# Altium footprint library WCH沁恒.pcblib: 121 footprints (part 1 of 8)
Each footprint in its own frame and in the unit in brackets; x right, y up, seen from the top. Pads: shape width x height; smd on the part's side, far side on the other; paste and mask are expansions set on the pad; w line width, h text height; cw(c..) or ccw(c..) is an arc to the next point about the centre after c.
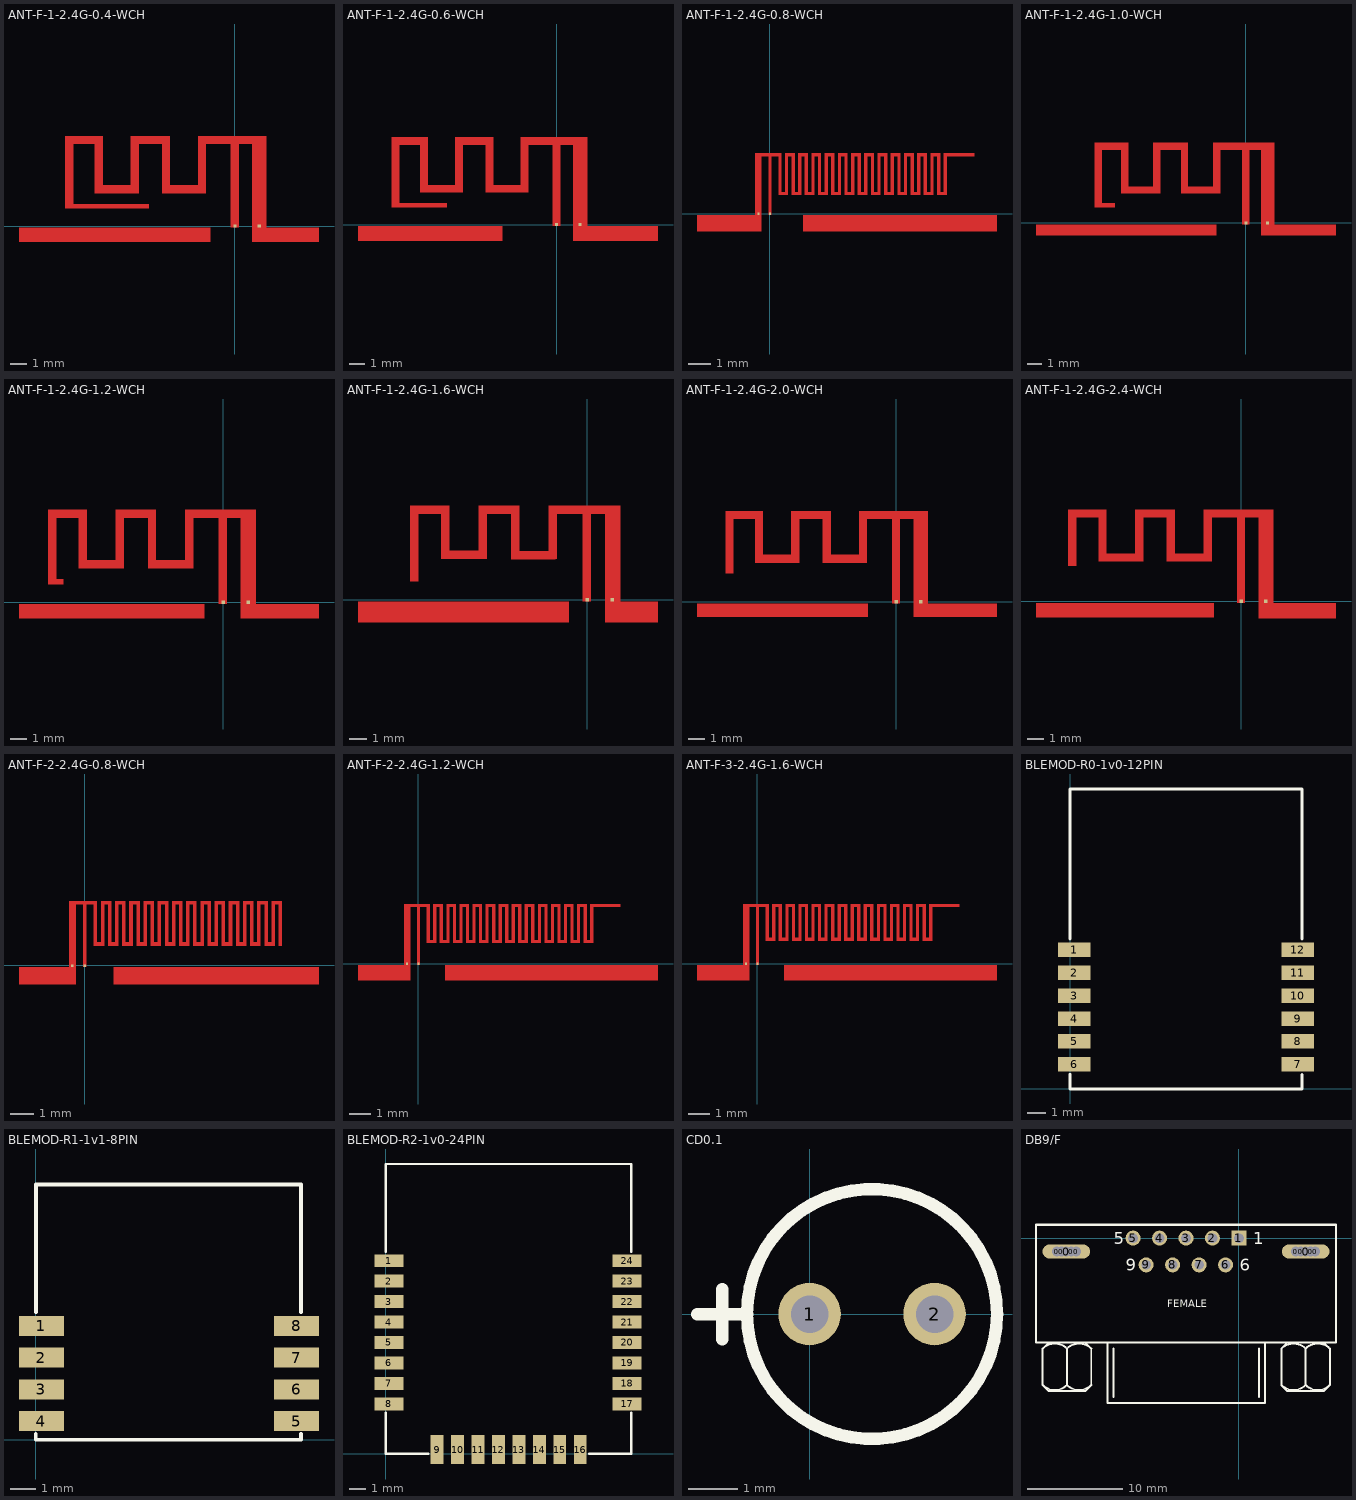
[diagram p0: the footprints below, top view; thin cyan lines are the x and y axes]

## ANT-F-1-2.4G-0.4-WCH [mm]
pads (2):
  rect 0.2x0.2 smd mask+0: 0(1.483,0) 1(0,0)
TopLayer:
  region: -5.26,1.36 -10.36,1.36 -10.36,1.06 -5.26,1.06
  region: 0.24,5.231 -0.26,5.231 -0.26,-0.1 0.24,-0.1
  region: 1.94,5.205 1.04,5.205 1.04,-0.1 1.94,-0.1
  region: 1.94,5.5 -2.26,5.5 -2.26,5 1.94,5
  region: -1.76,5.18 -2.26,5.18 -2.26,2 -1.76,2
  region: -1.85,2.5 -4.39,2.5 -4.39,2 -1.85,2
  region: -3.96,5.18 -4.46,5.18 -4.46,2 -3.96,2
  region: -3.96,5.5 -6.36,5.5 -6.36,5 -3.96,5
  region: -5.86,5.18 -6.36,5.18 -6.36,2 -5.86,2
  region: -5.875,2.5 -8.364,2.5 -8.364,2 -5.875,2
  region: -8.06,5.18 -8.56,5.18 -8.56,2 -8.06,2
  region: -8.06,5.5 -10.36,5.5 -10.36,5 -8.06,5
  region: -9.86,5.18 -10.36,5.18 -10.36,1.06 -9.86,1.06
  rectangle: 1.04,-0.974 5.134,-0.1
  rectangle: -13.183,-0.974 -1.488,-0.1
Mechanical13:
  text "GND" at 1.106,-1.525 h0.89
  text "GND" at -9.2,-1.525 h0.89
  text "适用FR4板材，0.4mm板厚，封装未开窗，建议天线开窗。技术咨询 tech@wch.cn" at -10.901,-4.729 h0.4

## ANT-F-1-2.4G-0.6-WCH [mm]
pads (2):
  rect 0.2x0.2 smd mask+0: 0(1.483,0) 1(0,0)
TopLayer:
  region: -9.86,5.18 -10.36,5.18 -10.36,1.06 -9.86,1.06
  region: -8.06,5.5 -10.36,5.5 -10.36,5 -8.06,5
  region: -8.06,5.18 -8.56,5.18 -8.56,2 -8.06,2
  region: -5.875,2.5 -8.364,2.5 -8.364,2 -5.875,2
  region: -5.86,5.18 -6.36,5.18 -6.36,2 -5.86,2
  region: -3.96,5.5 -6.36,5.5 -6.36,5 -3.96,5
  region: -3.96,5.18 -4.46,5.18 -4.46,2 -3.96,2
  region: -1.85,2.5 -4.39,2.5 -4.39,2 -1.85,2
  region: -1.76,5.18 -2.26,5.18 -2.26,2 -1.76,2
  region: 1.94,5.5 -2.26,5.5 -2.26,5 1.94,5
  region: 1.94,5.205 1.04,5.205 1.04,-0.1 1.94,-0.1
  region: 0.24,5.231 -0.26,5.231 -0.26,-0.1 0.24,-0.1
  region: -6.86,1.36 -10.36,1.36 -10.36,1.06 -6.86,1.06
  rectangle: 1.04,-1.031 6.37,-0.1
  rectangle: -12.459,-1.031 -3.394,-0.1
Mechanical13:
  text "适用FR4板材，0.6mm板厚，封装未开窗，建议天线开窗。技术咨询 tech@wch.cn" at -10.533,-5.177 h0.4
  text "GND" at 1.692,-1.863 h0.89
  text "GND" at -8.615,-1.863 h0.89

## ANT-F-1-2.4G-0.8-WCH [mm]
pads (2):
  rect 0.1x0.1 smd mask+0: 0(-0.525,0) 1(0,0)
TopLayer:
  rectangle: -3.312,-0.797 -0.375,-0.05
  rectangle: 1.506,-0.797 10.3,-0.05
  rectangle: 7.875,0.85 8.025,2.75
  rectangle: 7.875,2.6 9.275,2.75
  rectangle: 7.575,0.85 8.025,1
  rectangle: 6.675,0.85 6.825,2.75
  rectangle: 6.975,0.85 7.125,2.75
  rectangle: 7.275,0.85 7.425,2.75
  rectangle: 7.575,0.85 7.725,2.75
  rectangle: 6.675,2.6 7.125,2.75
  rectangle: 7.275,2.6 7.725,2.75
  rectangle: 6.375,0.85 6.825,1
  rectangle: 6.975,0.85 7.425,1
  rectangle: 5.475,0.85 5.625,2.75
  rectangle: 5.775,0.85 5.925,2.75
  rectangle: 6.075,0.85 6.225,2.75
  rectangle: 6.375,0.85 6.525,2.75
  rectangle: 5.475,2.6 5.925,2.75
  rectangle: 6.075,2.6 6.525,2.75
  rectangle: 5.175,0.85 5.625,1
  rectangle: 5.775,0.85 6.225,1
  rectangle: 4.275,0.85 4.425,2.75
  rectangle: 4.575,0.85 4.725,2.75
  rectangle: 4.875,0.85 5.025,2.75
  rectangle: 5.175,0.85 5.325,2.75
  rectangle: 4.275,2.6 4.725,2.75
  rectangle: 4.875,2.6 5.325,2.75
  rectangle: 3.975,0.85 4.425,1
  rectangle: 4.575,0.85 5.025,1
  rectangle: 3.075,0.85 3.225,2.75
  rectangle: 3.375,0.85 3.525,2.75
  rectangle: 3.675,0.85 3.825,2.75
  rectangle: 3.975,0.85 4.125,2.75
  rectangle: 3.075,2.6 3.525,2.75
  rectangle: 3.675,2.6 4.125,2.75
  rectangle: 2.775,0.85 3.225,1
  rectangle: 3.375,0.85 3.825,1
  rectangle: 1.875,0.85 2.025,2.75
  rectangle: 2.175,0.85 2.325,2.75
  rectangle: 2.475,0.85 2.625,2.75
  rectangle: 2.775,0.85 2.925,2.75
  rectangle: 1.875,2.6 2.325,2.75
  rectangle: 2.475,2.6 2.925,2.75
  rectangle: 1.575,0.85 2.025,1
  rectangle: 2.175,0.85 2.625,1
  rectangle: 0.975,0.85 1.425,1
  rectangle: 0.375,0.85 0.825,1
  rectangle: 1.275,2.6 1.725,2.75
  rectangle: 0.675,2.6 1.125,2.75
  rectangle: 0.075,2.6 0.525,2.75
  rectangle: 1.575,0.85 1.725,2.75
  rectangle: 1.275,0.85 1.425,2.75
  rectangle: 0.975,0.85 1.125,2.75
  rectangle: 0.675,0.85 0.825,2.75
  rectangle: 0.375,0.85 0.525,2.75
  region: 0.075,2.6 0.075,2.75 -0.675,2.75 -0.675,2.6
  rectangle: -0.075,-0.05 0.075,2.75
  rectangle: -0.675,-0.05 -0.375,2.75
Mechanical13:
  text "适用FR4板材，0.8mm板厚，封装未开窗，建议天线开窗。技术咨询 tech@wch.cn" at -2.978,-4.128 h0.4
  text "GND" at -3.175,-1.419 h0.89
  text "GND" at 6.07,-1.419 h0.89

## ANT-F-1-2.4G-1.0-WCH [mm]
pads (2):
  rect 0.2x0.2 smd mask+0: 0(1.483,0) 1(0,0)
TopLayer:
  rectangle: 1.04,-0.863 6.163,-0.1
  rectangle: -14.378,-0.863 -2.035,-0.1
  region: -8.96,1.36 -10.36,1.36 -10.36,1.06 -8.96,1.06
  region: 0.24,5.231 -0.26,5.231 -0.26,-0.1 0.24,-0.1
  region: 1.94,5.205 1.04,5.205 1.04,-0.1 1.94,-0.1
  region: 1.94,5.5 -2.26,5.5 -2.26,5 1.94,5
  region: -1.76,5.18 -2.26,5.18 -2.26,2 -1.76,2
  region: -1.85,2.5 -4.39,2.5 -4.39,2 -1.85,2
  region: -3.96,5.18 -4.46,5.18 -4.46,2 -3.96,2
  region: -3.96,5.5 -6.36,5.5 -6.36,5 -3.96,5
  region: -5.86,5.18 -6.36,5.18 -6.36,2 -5.86,2
  region: -5.875,2.5 -8.364,2.5 -8.364,2 -5.875,2
  region: -8.06,5.18 -8.56,5.18 -8.56,2 -8.06,2
  region: -8.06,5.5 -10.36,5.5 -10.36,5 -8.06,5
  region: -9.86,5.18 -10.36,5.18 -10.36,1.06 -9.86,1.06
Mechanical13:
  text "适用FR4板材，1.0mm板厚，封装未开窗，建议天线开窗。技术咨询 tech@wch.cn" at -10.487,-4.419 h0.4
  text "GND" at 1.88,-1.447 h0.89
  text "GND" at -8.427,-1.447 h0.89

## ANT-F-1-2.4G-1.2-WCH [mm]
pads (2):
  rect 0.2x0.2 smd mask+0: 0(1.483,0) 1(0,0)
TopLayer:
  rectangle: 1.04,-0.978 5.679,-0.1
  rectangle: -12.086,-0.978 -1.093,-0.1
  region: -9.46,1.36 -10.36,1.36 -10.36,1.06 -9.46,1.06
  region: 0.24,5.231 -0.26,5.231 -0.26,-0.1 0.24,-0.1
  region: 1.94,5.205 1.04,5.205 1.04,-0.1 1.94,-0.1
  region: 1.94,5.5 -2.26,5.5 -2.26,5 1.94,5
  region: -1.76,5.18 -2.26,5.18 -2.26,2 -1.76,2
  region: -1.85,2.5 -4.39,2.5 -4.39,2 -1.85,2
  region: -3.96,5.18 -4.46,5.18 -4.46,2 -3.96,2
  region: -3.96,5.5 -6.36,5.5 -6.36,5 -3.96,5
  region: -5.86,5.18 -6.36,5.18 -6.36,2 -5.86,2
  region: -5.875,2.5 -8.364,2.5 -8.364,2 -5.875,2
  region: -8.06,5.18 -8.56,5.18 -8.56,2 -8.06,2
  region: -8.06,5.5 -10.36,5.5 -10.36,5 -8.06,5
  region: -9.86,5.18 -10.36,5.18 -10.36,1.06 -9.86,1.06
Mechanical13:
  text "GND" at 0.936,-1.808 h0.89
  text "GND" at -9.371,-1.808 h0.89
  text "适用FR4板材，1.2mm板厚，封装未开窗，建议天线开窗。技术咨询 tech@wch.cn" at -10.498,-4.902 h0.4

## ANT-F-1-2.4G-1.6-WCH [mm]
pads (2):
  rect 0.2x0.2 smd mask+0: 0(1.483,0) 1(0,0)
TopLayer:
  rectangle: -13.408,-1.335 -1.064,-0.1
  rectangle: 1.04,-1.335 4.149,-0.1
  region: -9.86,5.18 -10.36,5.18 -10.36,1.06 -9.86,1.06
  region: -8.06,5.5 -10.36,5.5 -10.36,5 -8.06,5
  region: -8.06,5.181 -8.56,5.181 -8.56,2.361 -8.06,2.361
  region: -5.875,2.861 -8.364,2.861 -8.364,2.361 -5.875,2.361
  region: -5.86,5.181 -6.36,5.181 -6.36,2.361 -5.86,2.361
  region: -3.96,5.5 -6.36,5.5 -6.36,5 -3.96,5
  region: -3.96,5.18 -4.46,5.18 -4.46,2.36 -3.96,2.36
  region: -1.85,2.855 -4.39,2.855 -4.39,2.36 -1.85,2.36
  region: -1.76,5.181 -2.26,5.181 -2.26,2.361 -1.76,2.361
  region: 1.94,5.5 -2.26,5.5 -2.26,5 1.94,5
  region: 1.94,5.206 1.04,5.206 1.04,-0.1 1.94,-0.1
  region: 0.24,5.231 -0.26,5.231 -0.26,-0.1 0.24,-0.1
Mechanical13:
  text "适用FR4板材，1.6mm板厚，封装未开窗，建议天线开窗。技术咨询 tech@wch.cn" at -10.511,-5.125 h0.4
  text "GND" at 1.225,-1.74 h0.89
  text "GND" at -9.082,-1.74 h0.89

## ANT-F-1-2.4G-2.0-WCH [mm]
pads (2):
  rect 0.2x0.2 smd mask+0: 0(1.483,0) 1(0,0)
TopLayer:
  rectangle: 1.04,-0.928 6.113,-0.1
  rectangle: -12.073,-0.928 -1.72,-0.1
  region: 0.24,5.231 -0.26,5.231 -0.26,-0.1 0.24,-0.1
  region: 1.94,5.206 1.04,5.206 1.04,-0.1 1.94,-0.1
  region: 1.94,5.5 -2.26,5.5 -2.26,5 1.94,5
  region: -1.76,5.181 -2.26,5.181 -2.26,2.361 -1.76,2.361
  region: -1.85,2.855 -4.39,2.855 -4.39,2.36 -1.85,2.36
  region: -3.96,5.18 -4.46,5.18 -4.46,2.36 -3.96,2.36
  region: -3.96,5.5 -6.36,5.5 -6.36,5 -3.96,5
  region: -5.86,5.181 -6.36,5.181 -6.36,2.361 -5.86,2.361
  region: -5.875,2.861 -8.364,2.861 -8.364,2.361 -5.875,2.361
  region: -8.06,5.181 -8.56,5.181 -8.56,2.361 -8.06,2.361
  region: -8.06,5.5 -10.36,5.5 -10.36,5 -8.06,5
  region: -9.86,5.18 -10.36,5.18 -10.36,1.7 -9.86,1.7
Mechanical13:
  text "适用FR4板材，2.0mm板厚，封装未开窗，建议天线开窗。技术咨询 tech@wch.cn" at -10.433,-4.732 h0.4
  text "GND" at 1.5,-1.841 h0.89
  text "GND" at -8.807,-1.841 h0.89

## ANT-F-1-2.4G-2.4-WCH [mm]
pads (2):
  rect 0.2x0.2 smd mask+0: 0(1.483,0) 1(0,0)
TopLayer:
  region: -9.86,5.18 -10.36,5.18 -10.36,2.1 -9.86,2.1
  region: -8.06,5.5 -10.36,5.5 -10.36,5 -8.06,5
  region: -8.06,5.181 -8.56,5.181 -8.56,2.361 -8.06,2.361
  region: -5.875,2.861 -8.364,2.861 -8.364,2.361 -5.875,2.361
  region: -5.86,5.181 -6.36,5.181 -6.36,2.361 -5.86,2.361
  region: -3.96,5.5 -6.36,5.5 -6.36,5 -3.96,5
  region: -3.96,5.18 -4.46,5.18 -4.46,2.36 -3.96,2.36
  region: -1.85,2.855 -4.39,2.855 -4.39,2.36 -1.85,2.36
  region: -1.76,5.181 -2.26,5.181 -2.26,2.361 -1.76,2.361
  region: 1.94,5.5 -2.26,5.5 -2.26,5 1.94,5
  region: 1.94,5.206 1.04,5.206 1.04,-0.1 1.94,-0.1
  region: 0.24,5.231 -0.26,5.231 -0.26,-0.1 0.24,-0.1
  rectangle: -12.291,-0.983 -1.62,-0.1
  rectangle: 1.04,-1.05 5.683,-0.1
Mechanical13:
  text "GND" at 2.044,-1.666 h0.89
  text "GND" at -8.263,-1.666 h0.89
  text "适用FR4板材，2.4mm板厚，封装未开窗，建议天线开窗。技术咨询 tech@wch.cn" at -10.269,-5.379 h0.4

## ANT-F-2-2.4G-0.8-WCH [mm]
pads (2):
  rect 0.1x0.1 smd mask+0: 0(-0.525,-0.025) 1(0,-0.025)
TopLayer:
  rectangle: 7.875,0.825 8.025,2.725
  rectangle: 7.575,0.825 8.025,0.975
  rectangle: 6.675,0.825 6.825,2.725
  rectangle: 6.975,0.825 7.125,2.725
  rectangle: 7.275,0.825 7.425,2.725
  rectangle: 7.575,0.825 7.725,2.725
  rectangle: 6.675,2.575 7.125,2.725
  rectangle: 7.275,2.575 7.725,2.725
  rectangle: 6.375,0.825 6.825,0.975
  rectangle: 6.975,0.825 7.425,0.975
  rectangle: 5.475,0.825 5.625,2.725
  rectangle: 5.775,0.825 5.925,2.725
  rectangle: 6.075,0.825 6.225,2.725
  rectangle: 6.375,0.825 6.525,2.725
  rectangle: 5.475,2.575 5.925,2.725
  rectangle: 6.075,2.575 6.525,2.725
  rectangle: 5.175,0.825 5.625,0.975
  rectangle: 5.775,0.825 6.225,0.975
  rectangle: 4.275,0.825 4.425,2.725
  rectangle: 4.575,0.825 4.725,2.725
  rectangle: 4.875,0.825 5.025,2.725
  rectangle: 5.175,0.825 5.325,2.725
  rectangle: 4.275,2.575 4.725,2.725
  rectangle: 4.875,2.575 5.325,2.725
  rectangle: 3.975,0.825 4.425,0.975
  rectangle: 4.575,0.825 5.025,0.975
  rectangle: 3.075,0.825 3.225,2.725
  rectangle: 3.375,0.825 3.525,2.725
  rectangle: 3.675,0.825 3.825,2.725
  rectangle: 3.975,0.825 4.125,2.725
  rectangle: 3.075,2.575 3.525,2.725
  rectangle: 3.675,2.575 4.125,2.725
  rectangle: 2.775,0.825 3.225,0.975
  rectangle: 3.375,0.825 3.825,0.975
  rectangle: 1.875,0.825 2.025,2.725
  rectangle: 2.175,0.825 2.325,2.725
  rectangle: 2.475,0.825 2.625,2.725
  rectangle: 2.775,0.825 2.925,2.725
  rectangle: 1.875,2.575 2.325,2.725
  rectangle: 2.475,2.575 2.925,2.725
  rectangle: 1.575,0.825 2.025,0.975
  rectangle: 2.175,0.825 2.625,0.975
  rectangle: 0.975,0.825 1.425,0.975
  rectangle: 0.375,0.825 0.825,0.975
  rectangle: 1.275,2.575 1.725,2.725
  rectangle: 0.675,2.575 1.125,2.725
  rectangle: -0.075,2.575 0.525,2.725
  rectangle: 1.575,0.825 1.725,2.725
  rectangle: 1.275,0.825 1.425,2.725
  rectangle: 0.975,0.825 1.125,2.725
  rectangle: 0.675,0.825 0.825,2.725
  rectangle: 0.375,0.825 0.525,2.725
  region: 0.075,2.575 0.075,2.725 -0.675,2.725 -0.675,2.575
  rectangle: -0.075,-0.075 0.075,2.725
  rectangle: -0.675,-0.075 -0.375,2.725
  rectangle: 8.175,0.825 8.325,2.725
  rectangle: 7.875,2.575 8.325,2.725
  rectangle: 1.215,-0.802 9.885,-0.075
  rectangle: -2.777,-0.802 -0.375,-0.075
Mechanical13:
  text "GND" at -2.691,-1.393 h0.89
  text "GND" at 3.964,-1.393 h0.89
  text "适用FR4板材，0.8mm板厚，封装未开窗，建议天线开窗。技术咨询 tech@wch.cn" at -3.002,-4.172 h0.4

## ANT-F-2-2.4G-1.2-WCH [mm]
pads (2):
  rect 0.1x0.1 smd mask+0: 0(-0.525,0) 1(0,0)
TopLayer:
  rectangle: -2.777,-0.777 -0.375,-0.05
  rectangle: 1.215,-0.777 10.994,-0.05
  rectangle: 7.875,0.95 8.025,2.75
  rectangle: 7.875,2.6 9.275,2.75
  rectangle: 7.575,0.95 8.025,1.1
  rectangle: 6.675,0.95 6.825,2.75
  rectangle: 6.975,0.95 7.125,2.75
  rectangle: 7.275,0.95 7.425,2.75
  rectangle: 7.575,0.95 7.725,2.75
  rectangle: 6.675,2.6 7.125,2.75
  rectangle: 7.275,2.6 7.725,2.75
  rectangle: 6.375,0.95 6.825,1.1
  rectangle: 6.975,0.95 7.425,1.1
  rectangle: 5.475,0.95 5.625,2.75
  rectangle: 5.775,0.95 5.925,2.75
  rectangle: 6.075,0.95 6.225,2.75
  rectangle: 6.375,0.95 6.525,2.75
  rectangle: 5.475,2.6 5.925,2.75
  rectangle: 6.075,2.6 6.525,2.75
  rectangle: 5.175,0.95 5.625,1.1
  rectangle: 5.775,0.95 6.225,1.1
  rectangle: 4.275,0.95 4.425,2.75
  rectangle: 4.575,0.95 4.725,2.75
  rectangle: 4.875,0.95 5.025,2.75
  rectangle: 5.175,0.95 5.325,2.75
  rectangle: 4.275,2.6 4.725,2.75
  rectangle: 4.875,2.6 5.325,2.75
  rectangle: 3.975,0.95 4.425,1.1
  rectangle: 4.575,0.95 5.025,1.1
  rectangle: 3.075,0.95 3.225,2.75
  rectangle: 3.375,0.95 3.525,2.75
  rectangle: 3.675,0.95 3.825,2.75
  rectangle: 3.975,0.95 4.125,2.75
  rectangle: 3.075,2.6 3.525,2.75
  rectangle: 3.675,2.6 4.125,2.75
  rectangle: 2.775,0.95 3.225,1.1
  rectangle: 3.375,0.95 3.825,1.1
  rectangle: 1.875,0.95 2.025,2.75
  rectangle: 2.175,0.95 2.325,2.75
  rectangle: 2.475,0.95 2.625,2.75
  rectangle: 2.775,0.95 2.925,2.75
  rectangle: 1.875,2.6 2.325,2.75
  rectangle: 2.475,2.6 2.925,2.75
  rectangle: 1.575,0.95 2.025,1.1
  rectangle: 2.175,0.95 2.625,1.1
  rectangle: 0.975,0.95 1.425,1.1
  rectangle: 0.375,0.95 0.825,1.1
  rectangle: 1.275,2.6 1.725,2.75
  rectangle: 0.675,2.6 1.125,2.75
  rectangle: 0.075,2.6 0.525,2.75
  rectangle: 1.575,0.95 1.725,2.75
  rectangle: 1.275,0.95 1.425,2.75
  rectangle: 0.975,0.95 1.125,2.75
  rectangle: 0.675,0.95 0.825,2.75
  rectangle: 0.375,0.95 0.525,2.75
  region: 0.075,2.6 0.075,2.75 -0.675,2.75 -0.675,2.6
  rectangle: -0.075,-0.05 0.075,2.75
  rectangle: -0.675,-0.05 -0.375,2.75
Mechanical13:
  text "GND" at 3.964,-1.368 h0.89
  text "GND" at -3.295,-1.368 h0.89
  text "适用FR4板材，1.2mm板厚，封装未开窗，建议天线开窗。技术咨询 tech@wch.cn" at -2.709,-3.856 h0.4

## ANT-F-3-2.4G-1.6-WCH [mm]
pads (2):
  rect 0.1x0.1 smd mask+0: 0(-0.525,0) 1(0,0)
TopLayer:
  rectangle: 1.215,-0.777 10.994,-0.05
  rectangle: -2.777,-0.777 -0.375,-0.05
  rectangle: -0.675,-0.05 -0.375,2.75
  rectangle: -0.075,-0.05 0.075,2.75
  region: 0.075,2.6 0.075,2.75 -0.675,2.75 -0.675,2.6
  rectangle: 0.375,1.05 0.525,2.75
  rectangle: 0.675,1.05 0.825,2.75
  rectangle: 0.975,1.05 1.125,2.75
  rectangle: 1.275,1.05 1.425,2.75
  rectangle: 1.575,1.05 1.725,2.75
  rectangle: 0.075,2.6 0.525,2.75
  rectangle: 0.675,2.6 1.125,2.75
  rectangle: 1.275,2.6 1.725,2.75
  rectangle: 0.375,1.05 0.825,1.2
  rectangle: 0.975,1.05 1.425,1.2
  rectangle: 2.175,1.05 2.625,1.2
  rectangle: 1.575,1.05 2.025,1.2
  rectangle: 2.475,2.6 2.925,2.75
  rectangle: 1.875,2.6 2.325,2.75
  rectangle: 2.775,1.05 2.925,2.75
  rectangle: 2.475,1.05 2.625,2.75
  rectangle: 2.175,1.05 2.325,2.75
  rectangle: 1.875,1.05 2.025,2.75
  rectangle: 3.375,1.05 3.825,1.2
  rectangle: 2.775,1.05 3.225,1.2
  rectangle: 3.675,2.6 4.125,2.75
  rectangle: 3.075,2.6 3.525,2.75
  rectangle: 3.975,1.05 4.125,2.75
  rectangle: 3.675,1.05 3.825,2.75
  rectangle: 3.375,1.05 3.525,2.75
  rectangle: 3.075,1.05 3.225,2.75
  rectangle: 4.575,1.05 5.025,1.2
  rectangle: 3.975,1.05 4.425,1.2
  rectangle: 4.875,2.6 5.325,2.75
  rectangle: 4.275,2.6 4.725,2.75
  rectangle: 5.175,1.05 5.325,2.75
  rectangle: 4.875,1.05 5.025,2.75
  rectangle: 4.575,1.05 4.725,2.75
  rectangle: 4.275,1.05 4.425,2.75
  rectangle: 5.775,1.05 6.225,1.2
  rectangle: 5.175,1.05 5.625,1.2
  rectangle: 6.075,2.6 6.525,2.75
  rectangle: 5.475,2.6 5.925,2.75
  rectangle: 6.375,1.05 6.525,2.75
  rectangle: 6.075,1.05 6.225,2.75
  rectangle: 5.775,1.05 5.925,2.75
  rectangle: 5.475,1.05 5.625,2.75
  rectangle: 6.975,1.05 7.425,1.2
  rectangle: 6.375,1.05 6.825,1.2
  rectangle: 7.275,2.6 7.725,2.75
  rectangle: 6.675,2.6 7.125,2.75
  rectangle: 7.575,1.05 7.725,2.75
  rectangle: 7.275,1.05 7.425,2.75
  rectangle: 6.975,1.05 7.125,2.75
  rectangle: 6.675,1.05 6.825,2.75
  rectangle: 7.575,1.05 8.025,1.2
  rectangle: 7.875,2.6 9.275,2.75
  rectangle: 7.875,1.05 8.025,2.75
Mechanical13:
  text "GND" at 3.964,-1.368 h0.89
  text "GND" at -2.792,-1.368 h0.89
  text "适用FR4板材，1.6mm板厚，封装未开窗，建议天线开窗。技术咨询 tech@wch.cn" at -2.758,-4.352 h0.4

## BLEMOD-R0-1v0-12PIN [mm]
pads (12):
  rect 1.8x0.8 smd: 1(0.225,7.711) 2(0.225,6.441) 3(0.225,5.171) 4(0.225,3.901) 5(0.225,2.631) 6(0.225,1.361) 7(12.611,1.361) 8(12.611,2.631) 9(12.611,3.901) 10(12.611,5.171) 11(12.611,6.441) 12(12.611,7.711)
TopOverlay:
  lines w0.152: 0,0.822 0,0 12.835,0 12.835,0.796 ; 0,8.303 0,16.606 12.835,16.606 12.835,8.303

## BLEMOD-R1-1v1-8PIN [mm]
pads (8):
  rect 1.8x0.8 smd: 1(0.225,4.553) 2(0.225,3.283) 3(0.225,2.013) 4(0.225,0.743) 5(10.425,0.743) 6(10.425,2.013) 7(10.425,3.283) 8(10.425,4.553)
TopOverlay:
  lines w0.152: -0.008,0.233 -0.008,0 0,0 10.6,0 10.6,0.233 ; 0,5.108 0,10.215 10.6,10.215 10.6,5.108

## BLEMOD-R2-1v0-24PIN [mm]
pads (24):
  rect 1.8x0.8 smd: 1(0.192,12.005) 2(0.192,10.735) 3(0.192,9.465) 4(0.192,8.195) 5(0.192,6.925) 6(0.192,5.655) 7(0.192,4.385) 8(0.192,3.115) 17(14.981,3.115) 18(14.981,4.385) 19(14.981,5.655) 20(14.981,6.925) 21(14.981,8.195) 22(14.981,9.465) 23(14.981,10.735) 24(14.981,12.005)
  rect 0.8x1.8 smd: 9(3.183,0.275) 10(4.453,0.275) 11(5.723,0.275) 12(6.993,0.275) 13(8.263,0.275) 14(9.533,0.275) 15(10.803,0.275) 16(12.073,0.275)
TopOverlay:
  lines w0.152: 0,2.558 0,0 2.643,0 ; 0,12.559 0,18.015 15.256,18.015 15.256,12.564 ; 12.619,0 15.256,0 15.256,2.564

## CD0.1 [mil]
pads (2):
  round 50 hole 30: 1(0,0) 2(100,0)
TopOverlay:
  circle w10: c50,0 r100
  lines w10: -90,0 -50,0 ; -70,-20 -70,20

## DB9/F [mil]
pads (19):
  round 39.37 hole 39.37: 0(-751,-55) 0(-731,-55) 0(-691,-55) 0(-671,-55) 0(235,-55) 0(255,-55) 0(295,-55) 0(315,-55)
  oval 196.85x59.06 hole 39.37: 0(-711,-55)
  oval 196.85x59.05 hole 39.37: 0(275,-55)
  rect 62x62 hole 40: 1(0,0)
  round 62 hole 40: 2(-109,0) 3(-218,0) 4(-327,0) 5(-436,0) 6(-55,-110) 7(-164,-110) 8(-273,-110) 9(-382,-110)
TopOverlay:
  lines w8: -808.42,-605.09 ccw(c-758.33,-555) -708.25,-605.09 ; -808.42,-454.91 cw(c-758.33,-505) -708.25,-454.91 ; -783.33,-430 -808.33,-455 -808.33,-605 -783.33,-630 -633.33,-630 -608.33,-605 -608.33,-455 -633.33,-430 ; -708.42,-605.09 ccw(c-658.33,-555) -608.25,-605.09 ; -708.42,-454.91 cw(c-658.33,-505) -608.25,-454.91 ; -708.33,-605 -708.33,-455 ; -541.67,-430 -541.67,-680 108.33,-680 108.33,-430 ; -516.67,-655 -516.67,-455 ; 83.33,-655 83.33,-455 ; 174.91,-605.09 ccw(c225,-555) 275.09,-605.09 ; 174.91,-454.91 cw(c225,-505) 275.09,-454.91 ; 200,-430 175,-455 175,-605 200,-630 350,-630 375,-605 375,-455 350,-430 ; 274.91,-605.09 ccw(c325,-555) 375.09,-605.09 ; 274.91,-454.91 cw(c325,-505) 375.09,-454.91 ; 275,-605 275,-455
  lines w10: -836,-430 400,-430 400,55 -836,55 -836,-429.25
  text "6" at 4,-135 h50
  text "5" at -516,-25 h50
  text "1" at 59,-25 h50
  text "9" at -466,-135 h50
  text "FEMALE" at -296,-285 h30